# Altium footprint library QFP_Thin_Rect_65P_Side_M.PcbLib: 1 footprints
Each footprint in its own frame and in the unit in brackets; x right, y up, seen from the top. Pads: shape width x height; smd on the part's side, far side on the other; paste and mask are expansions set on the pad; w line width, h text height; cw(c..) or ccw(c..) is an arc to the next point about the centre after c.
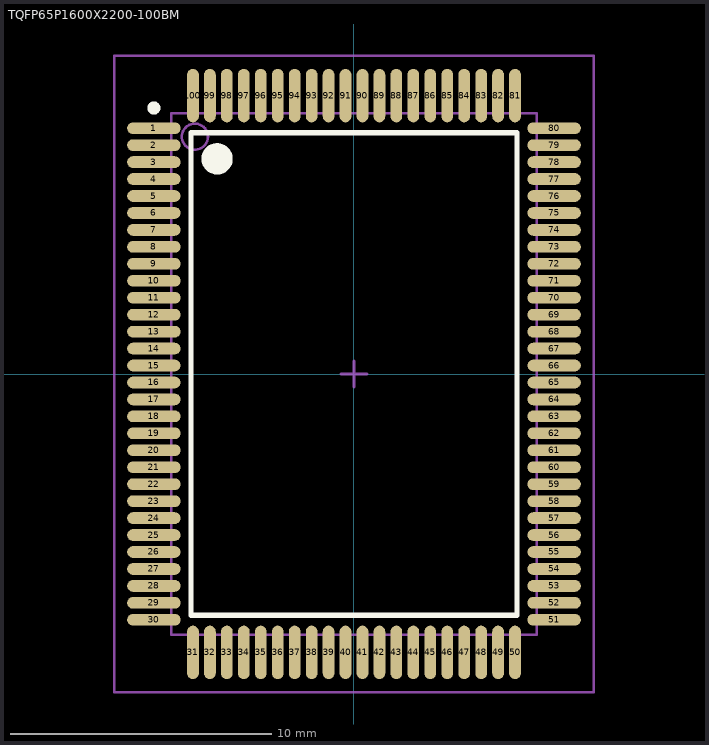
[diagram p0: the footprint, top view; thin cyan lines are the x and y axes]

## TQFP65P1600X2200-100BM [mm] "Thin QFP, 100-Leads, Body 20x14mm, Pitch 0.65mm, IPC Low Density"
height 1.6
pads (100):
  oval 2.05x0.45 smd: 1(-7.675,9.425) 2(-7.675,8.775) 3(-7.675,8.125) 4(-7.675,7.475) 5(-7.675,6.825) 6(-7.675,6.175) 7(-7.675,5.525) 8(-7.675,4.875) 9(-7.675,4.225) 10(-7.675,3.575) 11(-7.675,2.925) 12(-7.675,2.275) 13(-7.675,1.625) 14(-7.675,0.975) 15(-7.675,0.325) 16(-7.675,-0.325) 17(-7.675,-0.975) 18(-7.675,-1.625) 19(-7.675,-2.275) 20(-7.675,-2.925) 21(-7.675,-3.575) 22(-7.675,-4.225) 23(-7.675,-4.875) 24(-7.675,-5.525) 25(-7.675,-6.175) 26(-7.675,-6.825) 27(-7.675,-7.475) 28(-7.675,-8.125) 29(-7.675,-8.775) 30(-7.675,-9.425) 51(7.675,-9.425) 52(7.675,-8.775) 53(7.675,-8.125) 54(7.675,-7.475) 55(7.675,-6.825) 56(7.675,-6.175) 57(7.675,-5.525) 58(7.675,-4.875) 59(7.675,-4.225) 60(7.675,-3.575) 61(7.675,-2.925) 62(7.675,-2.275) 63(7.675,-1.625) 64(7.675,-0.975) 65(7.675,-0.325) 66(7.675,0.325) 67(7.675,0.975) 68(7.675,1.625) 69(7.675,2.275) 70(7.675,2.925) 71(7.675,3.575) 72(7.675,4.225) 73(7.675,4.875) 74(7.675,5.525) 75(7.675,6.175) 76(7.675,6.825) 77(7.675,7.475) 78(7.675,8.125) 79(7.675,8.775) 80(7.675,9.425)
  oval 0.45x2.05 smd: 31(-6.175,-10.675) 32(-5.525,-10.675) 33(-4.875,-10.675) 34(-4.225,-10.675) 35(-3.575,-10.675) 36(-2.925,-10.675) 37(-2.275,-10.675) 38(-1.625,-10.675) 39(-0.975,-10.675) 40(-0.325,-10.675) 41(0.325,-10.675) 42(0.975,-10.675) 43(1.625,-10.675) 44(2.275,-10.675) 45(2.925,-10.675) 46(3.575,-10.675) 47(4.225,-10.675) 48(4.875,-10.675) 49(5.525,-10.675) 50(6.175,-10.675) 81(6.175,10.675) 82(5.525,10.675) 83(4.875,10.675) 84(4.225,10.675) 85(3.575,10.675) 86(2.925,10.675) 87(2.275,10.675) 88(1.625,10.675) 89(0.975,10.675) 90(0.325,10.675) 91(-0.325,10.675) 92(-0.975,10.675) 93(-1.625,10.675) 94(-2.275,10.675) 95(-2.925,10.675) 96(-3.575,10.675) 97(-4.225,10.675) 98(-4.875,10.675) 99(-5.525,10.675) 100(-6.175,10.675)
Top Overlay:
  circle w0.6: c-5.25,8.25 r0.3
  circle w0.25: c-7.675,10.2 r0.125
  lines w0.2: -6.25,-9.25 6.25,-9.25 6.25,9.25 -6.25,9.25 -6.25,-9.25
Mechanical 13:
  circle w0.1: c-6.1,9.1 r0.5
  lines w0.1: -7,-10 7,-10 7,10 -7,10 -7,-10
Mechanical 15:
  lines w0.1: -0.5,0 0.5,0 ; 0,-0.5 0,0.5 ; -9.2,-12.2 9.2,-12.2 9.2,12.2 -9.2,12.2 -9.2,-12.2
3D body: height 1.6, standoff 0, extent -7,-10 7,10